# EAGLE library part 750815039 (library WE-OLTI)
WE-OLTI Offline Flyback Transformers Characteristics Nominal input voltage: 85–265 VAC (120–375 VDC) Small size Low leakage inductance Multiple-output options Operating temperature: −40 °C to +125 °C Isolation Voltage: 2 kVAC to 5 kVAC Options for fixed frequency or quasi-resonant mode operation Most products meet reinforced insulation Applications Industrial controls USB chargers Utility metering devices Process controls Factory automation Security systems Garage door opener auxiliary supplies Home appliances Especially designed for several ICs from Texas Instruments Details see: www.we-online.com/en/components/products/WE-OLTI Created by Ella 2025-02-06 2025 (C) Würth Elektronik
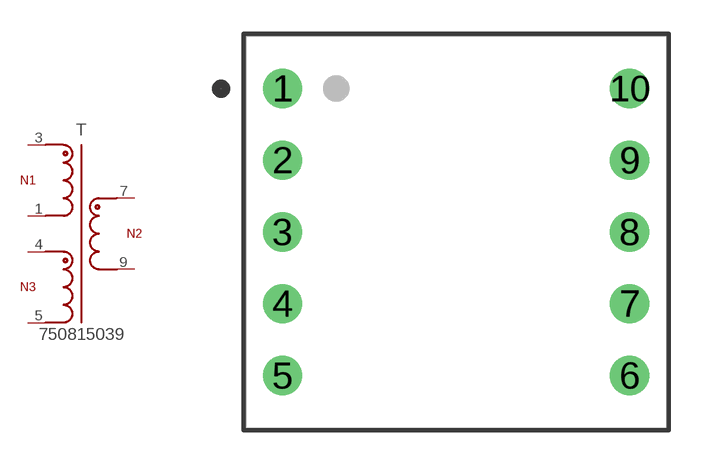
[diagram p1: symbol with the pads of WE-OLTI_EE16/7/5_L18.8W17.5H14.2; footprint WE-OLTI_EE16/7/5_L18.8W17.5H14.2]

Designator prefix T

## 750815039 (AUXILIARY_VOLTAGE_1: 12 V; CATEGORY: Transformers; DATASHEET: https://www.we-online.com/redexpert/spec/750815039?ae; HEIGHT: 14.2 mm; INDUCTANCE: 6600 uH; INPUT_VOLTAGE: 184 - 265 V (AC); INSULATION_TEST_VOLTAGE: 4000 V (AC); LENGTH: 17.5 mm; MANUFACTURER: Würth Elektronik; MOUNT: THT; MPN: 750815039; OUTPUT_CURRENT_1: 300 mA; OUTPUT_VOLTAGE_1: 12 V; SATURATION_CURRENT: 0.225 A; SIZE: EE16/7/5; SWITCHING-FREQUENCY: 40 - 130kHz; TURNS_RATIO: 18:1:1; VALUE: 6600 uH; WIDTH: 18.8 mm)  [WE-OLTI_EE16/7/5_L18.8W17.5H14.2]
1  P2  pas
3  P1  pas
4  A1  pas
5  A2  pas
7  S1  pas
9  S2  pas

## Footprint WE-OLTI_EE16/7/5_L18.8W17.5H14.2 (pad centres in mm)
WE-OLTI Offline Flyback Transformers Size: EE16/7/5,THT,10pins LXWXH=18.8X17.5X14.2mm Bobbin: 070-5472
drill 1.17: 1 -7.75,6.4; 2 -7.75,3.2; 3 -7.75,0; 4 -7.75,-3.2; 5 -7.75,-6.4; 6 7.75,-6.4; 7 7.75,-3.2; 8 7.75,0; 9 7.75,3.2; 10 7.75,6.4